# Altium integrated library TI_Logic_Specialty_Logic.IntLib: 2504 symbols (part 53 of 81)
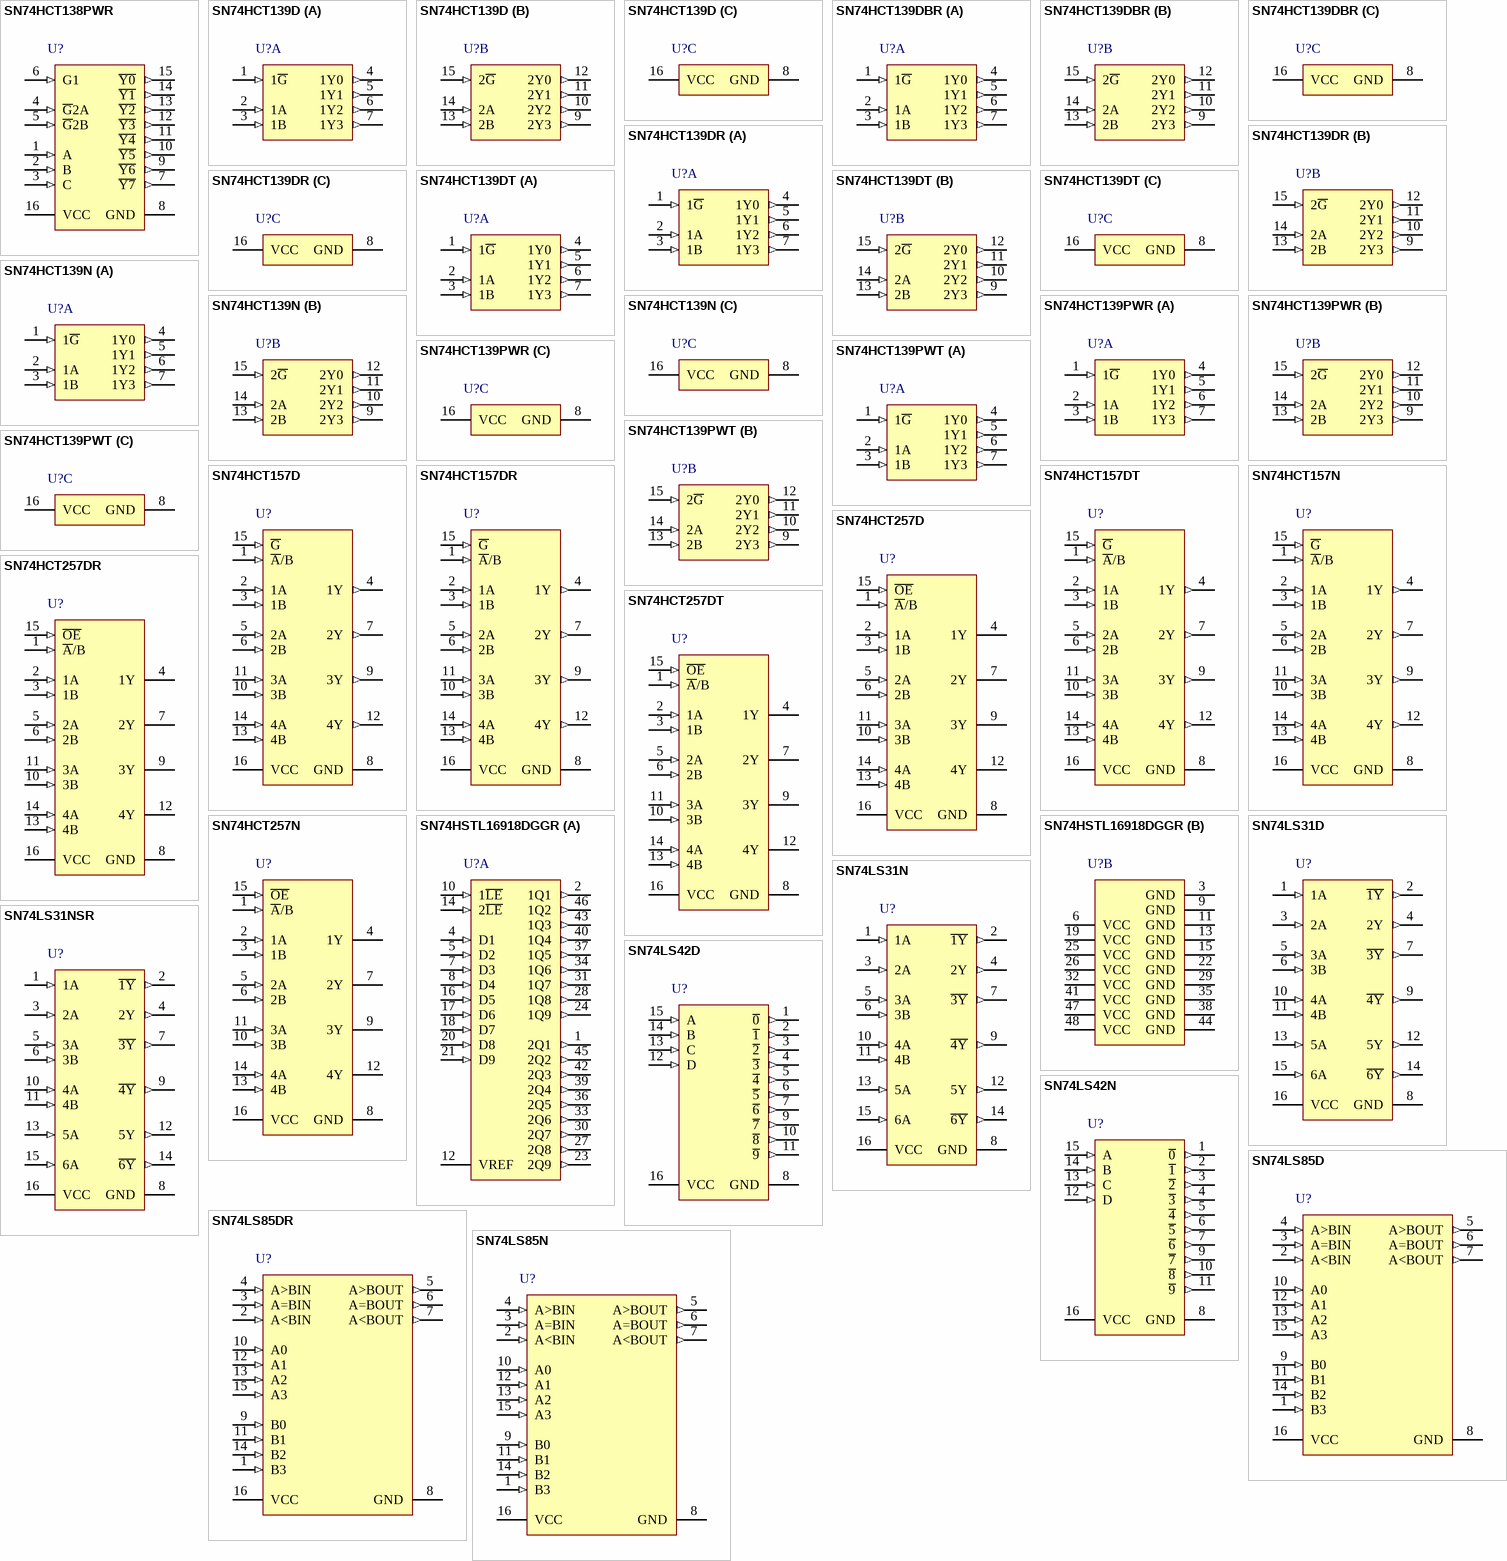
[diagram p156: symbols SN74HCT138PWR to SN74LS85N]

## SN74HCT139DR
designator U?
Dual 2-Line To 4-Line Decoders/Demultiplexers, D0016A, LARGE T&R; Generic Part Number: SN74HCT139; Manufacturer: Texas Instruments; PartNumber: SN74HCT139DR; VCC(Min)(V): 4.5; VCC(Max)(V): 5.5; Output Type: CMOS; Function: Decoder/Demultiplexer; ICC @ Nom Voltage(Max)(mA): 0.08; Input Type: TTL; Bits(#): 4; F @ Nom Voltage(Max)(Mhz): 25; Configuration: 2：4; Channels(#): 2; Rating: Catalog; Technology Family: HCT; Voltage(Nom)(V): 5; Schmitt Trigger: No; Output Drive (IOL/IOH)(Max)(mA): 4/-4; tpd @ Nom Voltage(Max)(ns): 43; DatasheetVersion: SCLS066D; PackageReference: D0016A; Supplier 1: Mouser; Supplier Part Number 1: 595-SN74HCT139DR; Supplier 2: Digi-Key; Supplier Part Number 2: 296-31833-2-ND; Supplier 3: Digi-Key; Supplier Part Number 3: 296-31833-1-ND; Supplier 4: Digi-Key; Supplier Part Number 4: 296-31833-6-ND; Operating Temperature Range(C): -40 to 85; Type: Standard; Code_JEDEC: MS-012 variation AC; ComponentLink1Description: Manufacturer URL; ComponentLink1URL: http://www.ti.com/; ComponentLink2Description: Datasheet; ComponentLink2URL: http://www.ti.com/lit/ds/symlink/sn74hct139.pdf; ComponentLink3Description: Package Specification; ComponentLink3URL: http://www.ti.com/lit/ml/mpds178g/mpds178g.pdf
footprint D0016A_N (SOIC, 16-Leads, Body 10x4mm, Pitch 1.27mm, IPC Medium Density)
footprint D0016A_M (SOIC, 16-Leads, Body 10x4mm, Pitch 1.27mm, IPC Low Density)
footprint D0016A_L (SOIC, 16-Leads, Body 10x4mm, Pitch 1.27mm, IPC High Density)
part A pins: 1 1~{G} (in), 2 1A (in), 3 1B (in), 4 1Y0 (out), 5 1Y1 (out), 6 1Y2 (out), 7 1Y3 (out)
part B pins: 9 2Y3 (out), 10 2Y2 (out), 11 2Y1 (out), 12 2Y0 (out), 13 2B (in), 14 2A (in), 15 2~{G} (in)
part C pins: 8 GND (power), 16 VCC (power)

## SN74HCT139DT
designator U?
Dual 2-Line To 4-Line Decoders/Demultiplexers, D0016A, SMALL T&R; Generic Part Number: SN74HCT139; Manufacturer: Texas Instruments; PartNumber: SN74HCT139DT; VCC(Min)(V): 4.5; VCC(Max)(V): 5.5; Output Type: CMOS; Function: Decoder/Demultiplexer; ICC @ Nom Voltage(Max)(mA): 0.08; Input Type: TTL; Bits(#): 4; F @ Nom Voltage(Max)(Mhz): 25; Configuration: 2：4; Channels(#): 2; Rating: Catalog; Technology Family: HCT; Voltage(Nom)(V): 5; Schmitt Trigger: No; Output Drive (IOL/IOH)(Max)(mA): 4/-4; tpd @ Nom Voltage(Max)(ns): 43; DatasheetVersion: SCLS066D; PackageReference: D0016A; Supplier 1: Mouser; Supplier Part Number 1: 595-SN74HCT139DT; Supplier 2: Digi-Key; Supplier Part Number 2: SN74HCT139DT-ND; Operating Temperature Range(C): -40 to 85; Type: Standard; Code_JEDEC: MS-012 variation AC; ComponentLink1Description: Manufacturer URL; ComponentLink1URL: http://www.ti.com/; ComponentLink2Description: Datasheet; ComponentLink2URL: http://www.ti.com/lit/ds/symlink/sn74hct139.pdf; ComponentLink3Description: Package Specification; ComponentLink3URL: http://www.ti.com/lit/ml/mpds178g/mpds178g.pdf
footprint D0016A_N (SOIC, 16-Leads, Body 10x4mm, Pitch 1.27mm, IPC Medium Density)
footprint D0016A_M (SOIC, 16-Leads, Body 10x4mm, Pitch 1.27mm, IPC Low Density)
footprint D0016A_L (SOIC, 16-Leads, Body 10x4mm, Pitch 1.27mm, IPC High Density)
part A pins: 1 1~{G} (in), 2 1A (in), 3 1B (in), 4 1Y0 (out), 5 1Y1 (out), 6 1Y2 (out), 7 1Y3 (out)
part B pins: 9 2Y3 (out), 10 2Y2 (out), 11 2Y1 (out), 12 2Y0 (out), 13 2B (in), 14 2A (in), 15 2~{G} (in)
part C pins: 8 GND (power), 16 VCC (power)

## SN74HCT139N
designator U?
Dual 2-Line To 4-Line Decoders/Demultiplexers, N0016A, TUBE; Generic Part Number: SN74HCT139; Manufacturer: Texas Instruments; PartNumber: SN74HCT139N; VCC(Min)(V): 4.5; VCC(Max)(V): 5.5; Output Type: CMOS; Function: Decoder/Demultiplexer; ICC @ Nom Voltage(Max)(mA): 0.08; Input Type: TTL; Bits(#): 4; F @ Nom Voltage(Max)(Mhz): 25; Configuration: 2：4; Channels(#): 2; Rating: Catalog; Technology Family: HCT; Voltage(Nom)(V): 5; Schmitt Trigger: No; Output Drive (IOL/IOH)(Max)(mA): 4/-4; tpd @ Nom Voltage(Max)(ns): 43; DatasheetVersion: SCLS066D; PackageReference: N0016A; Supplier 1: Mouser; Supplier Part Number 1: 595-SN74HCT139N; Supplier 2: Digi-Key; Supplier Part Number 2: 296-8390-5-ND; Operating Temperature Range(C): -40 to 85; Type: Standard; Code_JEDEC: MS-001; ComponentLink1Description: Manufacturer URL; ComponentLink1URL: http://www.ti.com/; ComponentLink2Description: Datasheet; ComponentLink2URL: http://www.ti.com/lit/ds/symlink/sn74hct139.pdf; ComponentLink3Description: Package Specification; ComponentLink3URL: http://www.ti.com/lit/ml/mpdi002c/mpdi002c.pdf
footprint N0016A (DIP, 16-Leads, Body 19.7x6.6mm, Pitch 2.54mm)
part A pins: 1 1~{G} (in), 2 1A (in), 3 1B (in), 4 1Y0 (out), 5 1Y1 (out), 6 1Y2 (out), 7 1Y3 (out)
part B pins: 9 2Y3 (out), 10 2Y2 (out), 11 2Y1 (out), 12 2Y0 (out), 13 2B (in), 14 2A (in), 15 2~{G} (in)
part C pins: 8 GND (power), 16 VCC (power)

## SN74HCT139PWR
designator U?
Dual 2-Line To 4-Line Decoders/Demultiplexers, PW0016A, LARGE T&R; Generic Part Number: SN74HCT139; Manufacturer: Texas Instruments; PartNumber: SN74HCT139PWR; VCC(Min)(V): 4.5; VCC(Max)(V): 5.5; Output Type: CMOS; Function: Decoder/Demultiplexer; ICC @ Nom Voltage(Max)(mA): 0.08; Input Type: TTL; Bits(#): 4; F @ Nom Voltage(Max)(Mhz): 25; Configuration: 2：4; Channels(#): 2; Rating: Catalog; Technology Family: HCT; Voltage(Nom)(V): 5; Schmitt Trigger: No; Output Drive (IOL/IOH)(Max)(mA): 4/-4; tpd @ Nom Voltage(Max)(ns): 43; DatasheetVersion: SCLS066D; PackageReference: PW0016A; Supplier 1: Mouser; Supplier Part Number 1: 595-SN74HCT139PWR; Supplier 2: Digi-Key; Supplier Part Number 2: 296-11999-2-ND; Supplier 3: Digi-Key; Supplier Part Number 3: 296-11999-1-ND; Supplier 4: Digi-Key; Supplier Part Number 4: 296-11999-6-ND; Operating Temperature Range(C): -40 to 85; Type: Standard; Code_JEDEC: MO-153; ComponentLink1Description: Manufacturer URL; ComponentLink1URL: http://www.ti.com/; ComponentLink2Description: Datasheet; ComponentLink2URL: http://www.ti.com/lit/ds/symlink/sn74hct139.pdf; ComponentLink3Description: Package Specification; ComponentLink3URL: http://www.ti.com/lit/ml/mpds361/mpds361.pdf
footprint PW0016A_N (SOP, 16-Leads, Body 5.1x4.5mm, Pitch 0.65mm, IPC Medium Density)
footprint PW0016A_M (SOP, 16-Leads, Body 5.1x4.5mm, Pitch 0.65mm, IPC Low Density)
footprint PW0016A_L (SOP, 16-Leads, Body 5.1x4.5mm, Pitch 0.65mm, IPC High Density)
part A pins: 1 1~{G} (in), 2 1A (in), 3 1B (in), 4 1Y0 (out), 5 1Y1 (out), 6 1Y2 (out), 7 1Y3 (out)
part B pins: 9 2Y3 (out), 10 2Y2 (out), 11 2Y1 (out), 12 2Y0 (out), 13 2B (in), 14 2A (in), 15 2~{G} (in)
part C pins: 8 GND (power), 16 VCC (power)

## SN74HCT139PWT
designator U?
Dual 2-Line To 4-Line Decoders/Demultiplexers, PW0016A, SMALL T&R; Generic Part Number: SN74HCT139; Manufacturer: Texas Instruments; PartNumber: SN74HCT139PWT; VCC(Min)(V): 4.5; VCC(Max)(V): 5.5; Output Type: CMOS; Function: Decoder/Demultiplexer; ICC @ Nom Voltage(Max)(mA): 0.08; Input Type: TTL; Bits(#): 4; F @ Nom Voltage(Max)(Mhz): 25; Configuration: 2：4; Channels(#): 2; Rating: Catalog; Technology Family: HCT; Voltage(Nom)(V): 5; Schmitt Trigger: No; Output Drive (IOL/IOH)(Max)(mA): 4/-4; tpd @ Nom Voltage(Max)(ns): 43; DatasheetVersion: SCLS066D; PackageReference: PW0016A; Supplier 1: Mouser; Supplier Part Number 1: 595-SN74HCT139PWT; Supplier 2: Digi-Key; Supplier Part Number 2: SN74HCT139PWT-ND; Operating Temperature Range(C): -40 to 85; Type: Standard; Code_JEDEC: MO-153; ComponentLink1Description: Manufacturer URL; ComponentLink1URL: http://www.ti.com/; ComponentLink2Description: Datasheet; ComponentLink2URL: http://www.ti.com/lit/ds/symlink/sn74hct139.pdf; ComponentLink3Description: Package Specification; ComponentLink3URL: http://www.ti.com/lit/ml/mpds361/mpds361.pdf
footprint PW0016A_N (SOP, 16-Leads, Body 5.1x4.5mm, Pitch 0.65mm, IPC Medium Density)
footprint PW0016A_M (SOP, 16-Leads, Body 5.1x4.5mm, Pitch 0.65mm, IPC Low Density)
footprint PW0016A_L (SOP, 16-Leads, Body 5.1x4.5mm, Pitch 0.65mm, IPC High Density)
part A pins: 1 1~{G} (in), 2 1A (in), 3 1B (in), 4 1Y0 (out), 5 1Y1 (out), 6 1Y2 (out), 7 1Y3 (out)
part B pins: 9 2Y3 (out), 10 2Y2 (out), 11 2Y1 (out), 12 2Y0 (out), 13 2B (in), 14 2A (in), 15 2~{G} (in)
part C pins: 8 GND (power), 16 VCC (power)

## SN74HCT157D
designator U?
Quadruple 2-Line To 1-Line Data Selectors/Multiplexers, D0016A, TUBE; Generic Part Number: SN74HCT157; Manufacturer: Texas Instruments; PartNumber: SN74HCT157D; VCC(Min)(V): 4.5; VCC(Max)(V): 5.5; Output Type: CMOS; Function: Encoder/Multiplexer; ICC @ Nom Voltage(Max)(mA): 0.08; Input Type: TTL; Bits(#): 2; F @ Nom Voltage(Max)(Mhz): 25; Configuration: 2：1; Channels(#): 4; Rating: Catalog; Technology Family: HCT; Voltage(Nom)(V): 5; Schmitt Trigger: No; Output Drive (IOL/IOH)(Max)(mA): 6/-6; tpd @ Nom Voltage(Max)(ns): 40; DatasheetVersion: SCLS071D; PackageReference: D0016A; Supplier 1: Mouser; Supplier Part Number 1: 595-SN74HCT157D; Supplier 2: Digi-Key; Supplier Part Number 2: 296-8396-5-ND; Operating Temperature Range(C): -40 to 85; Type: Standard; Code_JEDEC: MS-012 variation AC; ComponentLink1Description: Manufacturer URL; ComponentLink1URL: http://www.ti.com/; ComponentLink2Description: Datasheet; ComponentLink2URL: http://www.ti.com/lit/ds/symlink/sn74hct157.pdf; ComponentLink3Description: Package Specification; ComponentLink3URL: http://www.ti.com/lit/ml/mpds178g/mpds178g.pdf
footprint D0016A_N (SOIC, 16-Leads, Body 10x4mm, Pitch 1.27mm, IPC Medium Density)
footprint D0016A_M (SOIC, 16-Leads, Body 10x4mm, Pitch 1.27mm, IPC Low Density)
footprint D0016A_L (SOIC, 16-Leads, Body 10x4mm, Pitch 1.27mm, IPC High Density)
pins: 1 ~{A}/B (in), 2 1A (in), 3 1B (in), 4 1Y (out), 5 2A (in), 6 2B (in), 7 2Y (out), 8 GND (power), 9 3Y (out), 10 3B (in), 11 3A (in), 12 4Y (out), 13 4B (in), 14 4A (in), 15 ~{G} (in), 16 VCC (power)

## SN74HCT157DR
designator U?
Quadruple 2-Line To 1-Line Data Selectors/Multiplexers, D0016A, LARGE T&R; Generic Part Number: SN74HCT157; Manufacturer: Texas Instruments; PartNumber: SN74HCT157DR; VCC(Min)(V): 4.5; VCC(Max)(V): 5.5; Output Type: CMOS; Function: Encoder/Multiplexer; ICC @ Nom Voltage(Max)(mA): 0.08; Input Type: TTL; Bits(#): 2; F @ Nom Voltage(Max)(Mhz): 25; Configuration: 2：1; Channels(#): 4; Rating: Catalog; Technology Family: HCT; Voltage(Nom)(V): 5; Schmitt Trigger: No; Output Drive (IOL/IOH)(Max)(mA): 6/-6; tpd @ Nom Voltage(Max)(ns): 40; DatasheetVersion: SCLS071D; PackageReference: D0016A; Supplier 1: Mouser; Supplier Part Number 1: 595-SN74HCT157DR; Supplier 2: Digi-Key; Supplier Part Number 2: 296-31835-2-ND; Supplier 3: Digi-Key; Supplier Part Number 3: 296-31835-1-ND; Supplier 4: Digi-Key; Supplier Part Number 4: 296-31835-6-ND; Operating Temperature Range(C): -40 to 85; Type: Standard; Code_JEDEC: MS-012 variation AC; ComponentLink1Description: Manufacturer URL; ComponentLink1URL: http://www.ti.com/; ComponentLink2Description: Datasheet; ComponentLink2URL: http://www.ti.com/lit/ds/symlink/sn74hct157.pdf; ComponentLink3Description: Package Specification; ComponentLink3URL: http://www.ti.com/lit/ml/mpds178g/mpds178g.pdf
footprint D0016A_N (SOIC, 16-Leads, Body 10x4mm, Pitch 1.27mm, IPC Medium Density)
footprint D0016A_M (SOIC, 16-Leads, Body 10x4mm, Pitch 1.27mm, IPC Low Density)
footprint D0016A_L (SOIC, 16-Leads, Body 10x4mm, Pitch 1.27mm, IPC High Density)
pins: 1 ~{A}/B (in), 2 1A (in), 3 1B (in), 4 1Y (out), 5 2A (in), 6 2B (in), 7 2Y (out), 8 GND (power), 9 3Y (out), 10 3B (in), 11 3A (in), 12 4Y (out), 13 4B (in), 14 4A (in), 15 ~{G} (in), 16 VCC (power)

## SN74HCT157DT
designator U?
Quadruple 2-Line To 1-Line Data Selectors/Multiplexers, D0016A, SMALL T&R; Generic Part Number: SN74HCT157; Manufacturer: Texas Instruments; PartNumber: SN74HCT157DT; VCC(Min)(V): 4.5; VCC(Max)(V): 5.5; Output Type: CMOS; Function: Encoder/Multiplexer; ICC @ Nom Voltage(Max)(mA): 0.08; Input Type: TTL; Bits(#): 2; F @ Nom Voltage(Max)(Mhz): 25; Configuration: 2：1; Channels(#): 4; Rating: Catalog; Technology Family: HCT; Voltage(Nom)(V): 5; Schmitt Trigger: No; Output Drive (IOL/IOH)(Max)(mA): 6/-6; tpd @ Nom Voltage(Max)(ns): 40; DatasheetVersion: SCLS071D; PackageReference: D0016A; Supplier 1: Mouser; Supplier Part Number 1: 595-SN74HCT157DT; Supplier 2: Digi-Key; Supplier Part Number 2: SN74HCT157DT-ND; Operating Temperature Range(C): -40 to 85; Type: Standard; Code_JEDEC: MS-012 variation AC; ComponentLink1Description: Manufacturer URL; ComponentLink1URL: http://www.ti.com/; ComponentLink2Description: Datasheet; ComponentLink2URL: http://www.ti.com/lit/ds/symlink/sn74hct157.pdf; ComponentLink3Description: Package Specification; ComponentLink3URL: http://www.ti.com/lit/ml/mpds178g/mpds178g.pdf
footprint D0016A_N (SOIC, 16-Leads, Body 10x4mm, Pitch 1.27mm, IPC Medium Density)
footprint D0016A_M (SOIC, 16-Leads, Body 10x4mm, Pitch 1.27mm, IPC Low Density)
footprint D0016A_L (SOIC, 16-Leads, Body 10x4mm, Pitch 1.27mm, IPC High Density)
pins: 1 ~{A}/B (in), 2 1A (in), 3 1B (in), 4 1Y (out), 5 2A (in), 6 2B (in), 7 2Y (out), 8 GND (power), 9 3Y (out), 10 3B (in), 11 3A (in), 12 4Y (out), 13 4B (in), 14 4A (in), 15 ~{G} (in), 16 VCC (power)

## SN74HCT157N
designator U?
Quadruple 2-Line To 1-Line Data Selectors/Multiplexers, N0016A, TUBE; Generic Part Number: SN74HCT157; Manufacturer: Texas Instruments; PartNumber: SN74HCT157N; VCC(Min)(V): 4.5; VCC(Max)(V): 5.5; Output Type: CMOS; Function: Encoder/Multiplexer; ICC @ Nom Voltage(Max)(mA): 0.08; Input Type: TTL; Bits(#): 2; F @ Nom Voltage(Max)(Mhz): 25; Configuration: 2：1; Channels(#): 4; Rating: Catalog; Technology Family: HCT; Voltage(Nom)(V): 5; Schmitt Trigger: No; Output Drive (IOL/IOH)(Max)(mA): 6/-6; tpd @ Nom Voltage(Max)(ns): 40; DatasheetVersion: SCLS071D; PackageReference: N0016A; Supplier 1: Mouser; Supplier Part Number 1: 595-SN74HCT157N; Supplier 2: Digi-Key; Supplier Part Number 2: 296-8397-5-ND; Operating Temperature Range(C): -40 to 85; Type: Standard; Code_JEDEC: MS-001; ComponentLink1Description: Manufacturer URL; ComponentLink1URL: http://www.ti.com/; ComponentLink2Description: Datasheet; ComponentLink2URL: http://www.ti.com/lit/ds/symlink/sn74hct157.pdf; ComponentLink3Description: Package Specification; ComponentLink3URL: http://www.ti.com/lit/ml/mpdi002c/mpdi002c.pdf
footprint N0016A (DIP, 16-Leads, Body 19.7x6.6mm, Pitch 2.54mm)
pins: 1 ~{A}/B (in), 2 1A (in), 3 1B (in), 4 1Y (out), 5 2A (in), 6 2B (in), 7 2Y (out), 8 GND (power), 9 3Y (out), 10 3B (in), 11 3A (in), 12 4Y (out), 13 4B (in), 14 4A (in), 15 ~{G} (in), 16 VCC (power)

## SN74HCT257D
designator U?
Quadruple 2-Line To 1-Line Data Selectors/Multiplexers With 3-State Outputs, D0016A, TUBE; Generic Part Number: SN74HCT257; Manufacturer: Texas Instruments; PartNumber: SN74HCT257D; VCC(Min)(V): 4.5; VCC(Max)(V): 5.5; Output Type: CMOS; Function: Encoder/Multiplexer; ICC @ Nom Voltage(Max)(mA): 0.08; Input Type: TTL; Bits(#): 2; F @ Nom Voltage(Max)(Mhz): 25; Configuration: 2：1; Channels(#): 4; Rating: Catalog; Technology Family: HCT; Voltage(Nom)(V): 5; Schmitt Trigger: No; Output Drive (IOL/IOH)(Max)(mA): 6/-6; tpd @ Nom Voltage(Max)(ns): 38; DatasheetVersion: SCLS072D; PackageReference: D0016A; Supplier 1: Mouser; Supplier Part Number 1: 595-SN74HCT257D; Supplier 2: Digi-Key; Supplier Part Number 2: 296-8405-5-ND; Operating Temperature Range(C): -40 to 85; Type: 3-State Output; Code_JEDEC: MS-012 variation AC; ComponentLink1Description: Manufacturer URL; ComponentLink1URL: http://www.ti.com/; ComponentLink2Description: Datasheet; ComponentLink2URL: http://www.ti.com/lit/ds/symlink/sn74hct257.pdf; ComponentLink3Description: Package Specification; ComponentLink3URL: http://www.ti.com/lit/ml/mpds178g/mpds178g.pdf
footprint D0016A_N (SOIC, 16-Leads, Body 10x4mm, Pitch 1.27mm, IPC Medium Density)
footprint D0016A_M (SOIC, 16-Leads, Body 10x4mm, Pitch 1.27mm, IPC Low Density)
footprint D0016A_L (SOIC, 16-Leads, Body 10x4mm, Pitch 1.27mm, IPC High Density)
pins: 1 ~{A}/B (in), 2 1A (in), 3 1B (in), 4 1Y (hiz), 5 2A (in), 6 2B (in), 7 2Y (hiz), 8 GND (power), 9 3Y (hiz), 10 3B (in), 11 3A (in), 12 4Y (hiz), 13 4B (in), 14 4A (in), 15 ~{OE} (in), 16 VCC (power)

## SN74HCT257DR
designator U?
Quadruple 2-Line To 1-Line Data Selectors/Multiplexers With 3-State Outputs, D0016A, LARGE T&R; Generic Part Number: SN74HCT257; Manufacturer: Texas Instruments; PartNumber: SN74HCT257DR; VCC(Min)(V): 4.5; VCC(Max)(V): 5.5; Output Type: CMOS; Function: Encoder/Multiplexer; ICC @ Nom Voltage(Max)(mA): 0.08; Input Type: TTL; Bits(#): 2; F @ Nom Voltage(Max)(Mhz): 25; Configuration: 2：1; Channels(#): 4; Rating: Catalog; Technology Family: HCT; Voltage(Nom)(V): 5; Schmitt Trigger: No; Output Drive (IOL/IOH)(Max)(mA): 6/-6; tpd @ Nom Voltage(Max)(ns): 38; DatasheetVersion: SCLS072D; PackageReference: D0016A; Supplier 1: Mouser; Supplier Part Number 1: 595-SN74HCT257DR; Supplier 2: Digi-Key; Supplier Part Number 2: 296-14866-2-ND; Supplier 3: Digi-Key; Supplier Part Number 3: 296-14866-1-ND; Supplier 4: Digi-Key; Supplier Part Number 4: 296-14866-6-ND; Operating Temperature Range(C): -40 to 85; Type: 3-State Output; Code_JEDEC: MS-012 variation AC; ComponentLink1Description: Manufacturer URL; ComponentLink1URL: http://www.ti.com/; ComponentLink2Description: Datasheet; ComponentLink2URL: http://www.ti.com/lit/ds/symlink/sn74hct257.pdf; ComponentLink3Description: Package Specification; ComponentLink3URL: http://www.ti.com/lit/ml/mpds178g/mpds178g.pdf
footprint D0016A_N (SOIC, 16-Leads, Body 10x4mm, Pitch 1.27mm, IPC Medium Density)
footprint D0016A_M (SOIC, 16-Leads, Body 10x4mm, Pitch 1.27mm, IPC Low Density)
footprint D0016A_L (SOIC, 16-Leads, Body 10x4mm, Pitch 1.27mm, IPC High Density)
pins: 1 ~{A}/B (in), 2 1A (in), 3 1B (in), 4 1Y (hiz), 5 2A (in), 6 2B (in), 7 2Y (hiz), 8 GND (power), 9 3Y (hiz), 10 3B (in), 11 3A (in), 12 4Y (hiz), 13 4B (in), 14 4A (in), 15 ~{OE} (in), 16 VCC (power)

## SN74HCT257DT
designator U?
Quadruple 2-Line To 1-Line Data Selectors/Multiplexers With 3-State Outputs, D0016A, SMALL T&R; Generic Part Number: SN74HCT257; Manufacturer: Texas Instruments; PartNumber: SN74HCT257DT; VCC(Min)(V): 4.5; VCC(Max)(V): 5.5; Output Type: CMOS; Function: Encoder/Multiplexer; ICC @ Nom Voltage(Max)(mA): 0.08; Input Type: TTL; Bits(#): 2; F @ Nom Voltage(Max)(Mhz): 25; Configuration: 2：1; Channels(#): 4; Rating: Catalog; Technology Family: HCT; Voltage(Nom)(V): 5; Schmitt Trigger: No; Output Drive (IOL/IOH)(Max)(mA): 6/-6; tpd @ Nom Voltage(Max)(ns): 38; DatasheetVersion: SCLS072D; PackageReference: D0016A; Supplier 1: Mouser; Supplier Part Number 1: 595-SN74HCT257DT; Supplier 2: Digi-Key; Supplier Part Number 2: SN74HCT257DT-ND; Operating Temperature Range(C): -40 to 85; Type: 3-State Output; Code_JEDEC: MS-012 variation AC; ComponentLink1Description: Manufacturer URL; ComponentLink1URL: http://www.ti.com/; ComponentLink2Description: Datasheet; ComponentLink2URL: http://www.ti.com/lit/ds/symlink/sn74hct257.pdf; ComponentLink3Description: Package Specification; ComponentLink3URL: http://www.ti.com/lit/ml/mpds178g/mpds178g.pdf
footprint D0016A_N (SOIC, 16-Leads, Body 10x4mm, Pitch 1.27mm, IPC Medium Density)
footprint D0016A_M (SOIC, 16-Leads, Body 10x4mm, Pitch 1.27mm, IPC Low Density)
footprint D0016A_L (SOIC, 16-Leads, Body 10x4mm, Pitch 1.27mm, IPC High Density)
pins: 1 ~{A}/B (in), 2 1A (in), 3 1B (in), 4 1Y (hiz), 5 2A (in), 6 2B (in), 7 2Y (hiz), 8 GND (power), 9 3Y (hiz), 10 3B (in), 11 3A (in), 12 4Y (hiz), 13 4B (in), 14 4A (in), 15 ~{OE} (in), 16 VCC (power)

## SN74HCT257N
designator U?
Quadruple 2-Line To 1-Line Data Selectors/Multiplexers With 3-State Outputs, N0016A, TUBE; Generic Part Number: SN74HCT257; Manufacturer: Texas Instruments; PartNumber: SN74HCT257N; VCC(Min)(V): 4.5; VCC(Max)(V): 5.5; Output Type: CMOS; Function: Encoder/Multiplexer; ICC @ Nom Voltage(Max)(mA): 0.08; Input Type: TTL; Bits(#): 2; F @ Nom Voltage(Max)(Mhz): 25; Configuration: 2：1; Channels(#): 4; Rating: Catalog; Technology Family: HCT; Voltage(Nom)(V): 5; Schmitt Trigger: No; Output Drive (IOL/IOH)(Max)(mA): 6/-6; tpd @ Nom Voltage(Max)(ns): 38; DatasheetVersion: SCLS072D; PackageReference: N0016A; Supplier 1: Mouser; Supplier Part Number 1: 595-SN74HCT257N; Supplier 2: Digi-Key; Supplier Part Number 2: 296-8406-5-ND; Operating Temperature Range(C): -40 to 85; Type: 3-State Output; Code_JEDEC: MS-001; ComponentLink1Description: Manufacturer URL; ComponentLink1URL: http://www.ti.com/; ComponentLink2Description: Datasheet; ComponentLink2URL: http://www.ti.com/lit/ds/symlink/sn74hct257.pdf; ComponentLink3Description: Package Specification; ComponentLink3URL: http://www.ti.com/lit/ml/mpdi002c/mpdi002c.pdf
footprint N0016A (DIP, 16-Leads, Body 19.7x6.6mm, Pitch 2.54mm)
pins: 1 ~{A}/B (in), 2 1A (in), 3 1B (in), 4 1Y (hiz), 5 2A (in), 6 2B (in), 7 2Y (hiz), 8 GND (power), 9 3Y (hiz), 10 3B (in), 11 3A (in), 12 4Y (hiz), 13 4B (in), 14 4A (in), 15 ~{OE} (in), 16 VCC (power)

## SN74HSTL16918DGGR
designator U?
9-Bit To 18-Bit HSTL-To-LVTTL Memory Address Latch, DGG0048A, LARGE T&R; Generic Part Number: SN74HSTL16918; Manufacturer: Texas Instruments; PartNumber: SN74HSTL16918DGGR; Input Level: HSTL; Output Level: LVTTL; Voltage Nodes(V): 3.3; DatasheetVersion: SCES096C; PackageReference: DGG0048A; Supplier 1: Mouser; Supplier Part Number 1: 595-SN74HSTL16918DGG; Supplier 2: Digi-Key; Supplier Part Number 2: 296-9823-2-ND; Supplier 3: Digi-Key; Supplier Part Number 3: 296-9823-1-ND; Supplier 4: Digi-Key; Supplier Part Number 4: 296-9823-6-ND; Operating Temperature Range(C): -40 to 85; Technology Family: HSTL; Code_JEDEC: MO-153; ComponentLink1Description: Manufacturer URL; ComponentLink1URL: http://www.ti.com/; ComponentLink2Description: Datasheet; ComponentLink2URL: http://www.ti.com/lit/ds/symlink/sn74hstl16918.pdf; ComponentLink3Description: Package Specification; ComponentLink3URL: http://www.ti.com/lit/ml/mtss003d/mtss003d.pdf
footprint DGG0048A_N (TSSOP, 48-Leads, Body 12.6x6.2mm, Pitch 0.5mm, IPC Medium Density)
footprint DGG0048A_M (TSSOP, 48-Leads, Body 12.6x6.2mm, Pitch 0.5mm, IPC Low Density)
footprint DGG0048A_L (TSSOP, 48-Leads, Body 12.6x6.2mm, Pitch 0.5mm, IPC High Density)
part A pins: 1 2Q1 (out), 2 1Q1 (out), 4 D1 (in), 5 D2 (in), 7 D3 (in), 8 D4 (in), 10 1~{LE} (in), 12 VREF (power), 14 2~{LE} (in), 16 D5 (in), 17 D6 (in), 18 D7 (in), 20 D8 (in), 21 D9 (in), 23 2Q9 (out), 24 1Q9 (out), 27 2Q8 (out), 28 1Q8 (out), 30 2Q7 (out), 31 1Q7 (out), 33 2Q6 (out), 34 1Q6 (out), 36 2Q5 (out), 37 1Q5 (out), 39 2Q4 (out), 40 1Q4 (out), 42 2Q3 (out), 43 1Q3 (out), 45 2Q2 (out), 46 1Q2 (out)
part B pins: 3 GND (power), 6 VCC (power), 9 GND (power), 11 GND (power), 13 GND (power), 15 GND (power), 19 VCC (power), 22 GND (power), 25 VCC (power), 26 VCC (power), 29 GND (power), 32 VCC (power), 35 GND (power), 38 GND (power), 41 VCC (power), 44 GND (power), 47 VCC (power), 48 VCC (power)

## SN74LS31D
designator U?
Hex Delay Elements for Generating Delay Lines, D0016A, TUBE; Generic Part Number: SN74LS31; Manufacturer: Texas Instruments; PartNumber: SN74LS31D; VCC(Min)(V): 4.75; VCC(Max)(V): 5.25; Output Type: TTL; ICC @ Nom Voltage(Max)(mA): 20; Bits(#): 6; F @ Nom Voltage(Max)(Mhz): 35; Rating: Catalog; Technology Family: LS; Voltage(Nom)(V): 5; Output Drive (IOL/IOH)(Max)(mA): 24/-1.2; tpd @ Nom Voltage(Max)(ns): 95; DatasheetVersion: SDLS157; PackageReference: D0016A; Supplier 1: Mouser; Supplier Part Number 1: 595-SN74LS31D; Supplier 2: Digi-Key; Supplier Part Number 2: 296-33992-5-ND; Input Type: TTL; Operating Temperature Range(C): 0 to 70; Code_JEDEC: MS-012 variation AC; ComponentLink1Description: Manufacturer URL; ComponentLink1URL: http://www.ti.com/; ComponentLink2Description: Datasheet; ComponentLink2URL: http://www.ti.com/lit/ds/symlink/sn74ls31.pdf; ComponentLink3Description: Package Specification; ComponentLink3URL: http://www.ti.com/lit/ml/mpds178g/mpds178g.pdf
footprint D0016A_N (SOIC, 16-Leads, Body 10x4mm, Pitch 1.27mm, IPC Medium Density)
footprint D0016A_M (SOIC, 16-Leads, Body 10x4mm, Pitch 1.27mm, IPC Low Density)
footprint D0016A_L (SOIC, 16-Leads, Body 10x4mm, Pitch 1.27mm, IPC High Density)
pins: 1 1A (in), 2 ~{1Y} (out), 3 2A (in), 4 2Y (out), 5 3A (in), 6 3B (in), 7 ~{3Y} (out), 8 GND (power), 9 ~{4Y} (out), 10 4A (in), 11 4B (in), 12 5Y (out), 13 5A (in), 14 ~{6Y} (out), 15 6A (in), 16 VCC (power)

## SN74LS31N
designator U?
Hex Delay Elements for Generating Delay Lines, N0016A, TUBE; Generic Part Number: SN74LS31; Manufacturer: Texas Instruments; PartNumber: SN74LS31N; VCC(Min)(V): 4.75; VCC(Max)(V): 5.25; Output Type: TTL; ICC @ Nom Voltage(Max)(mA): 20; Bits(#): 6; F @ Nom Voltage(Max)(Mhz): 35; Rating: Catalog; Technology Family: LS; Voltage(Nom)(V): 5; Output Drive (IOL/IOH)(Max)(mA): 24/-1.2; tpd @ Nom Voltage(Max)(ns): 95; DatasheetVersion: SDLS157; PackageReference: N0016A; Supplier 1: Mouser; Supplier Part Number 1: 595-SN74LS31N; Supplier 2: Digi-Key; Supplier Part Number 2: 296-3694-5-ND; Input Type: TTL; Operating Temperature Range(C): 0 to 70; Code_JEDEC: MS-001; ComponentLink1Description: Manufacturer URL; ComponentLink1URL: http://www.ti.com/; ComponentLink2Description: Datasheet; ComponentLink2URL: http://www.ti.com/lit/ds/symlink/sn74ls31.pdf; ComponentLink3Description: Package Specification; ComponentLink3URL: http://www.ti.com/lit/ml/mpdi002c/mpdi002c.pdf
footprint N0016A (DIP, 16-Leads, Body 19.7x6.6mm, Pitch 2.54mm)
pins: 1 1A (in), 2 ~{1Y} (out), 3 2A (in), 4 2Y (out), 5 3A (in), 6 3B (in), 7 ~{3Y} (out), 8 GND (power), 9 ~{4Y} (out), 10 4A (in), 11 4B (in), 12 5Y (out), 13 5A (in), 14 ~{6Y} (out), 15 6A (in), 16 VCC (power)

## SN74LS31NSR
designator U?
Hex Delay Elements for Generating Delay Lines, NS0016A, LARGE T&R; Generic Part Number: SN74LS31; Manufacturer: Texas Instruments; PartNumber: SN74LS31NSR; VCC(Min)(V): 4.75; VCC(Max)(V): 5.25; Output Type: TTL; ICC @ Nom Voltage(Max)(mA): 20; Bits(#): 6; F @ Nom Voltage(Max)(Mhz): 35; Rating: Catalog; Technology Family: LS; Voltage(Nom)(V): 5; Output Drive (IOL/IOH)(Max)(mA): 24/-1.2; tpd @ Nom Voltage(Max)(ns): 95; DatasheetVersion: SDLS157; PackageReference: NS0016A; Supplier 1: Mouser; Supplier Part Number 1: 595-SN74LS31NSR; Supplier 2: Digi-Key; Supplier Part Number 2: SN74LS31NSR-ND; Input Type: TTL; Operating Temperature Range(C): 0 to 70; ComponentLink1Description: Manufacturer URL; ComponentLink1URL: http://www.ti.com/; ComponentLink2Description: Datasheet; ComponentLink2URL: http://www.ti.com/lit/ds/symlink/sn74ls31.pdf; ComponentLink3Description: Package Specification; ComponentLink3URL: http://www.ti.com/lit/ml/msop002a/msop002a.pdf
footprint NS0016A_N (SOIC,16-Leads,Body 10.5x5.6mm,Pitch 1.27mm,IPC Medium Density)
footprint NS0016A_M (SOIC,16-Leads,Body 10.5x5.6mm,Pitch 1.27mm,IPC Low Density)
footprint NS0016A_L (SOIC,16-Leads,Body 10.5x5.6mm,Pitch 1.27mm,IPC High Density)
pins: 1 1A (in), 2 ~{1Y} (out), 3 2A (in), 4 2Y (out), 5 3A (in), 6 3B (in), 7 ~{3Y} (out), 8 GND (power), 9 ~{4Y} (out), 10 4A (in), 11 4B (in), 12 5Y (out), 13 5A (in), 14 ~{6Y} (out), 15 6A (in), 16 VCC (power)

## SN74LS42D
designator U?
4-Line BCD To 10-Line Decimal Decoders, D0016A, TUBE; Generic Part Number: SN74LS42; Manufacturer: Texas Instruments; PartNumber: SN74LS42D; VCC(Min)(V): 4.75; VCC(Max)(V): 5.25; Output Type: TTL; Function: Decoder/Demultiplexer; ICC @ Nom Voltage(Max)(mA): 13; Bits(#): 10; F @ Nom Voltage(Max)(Mhz): 35; Configuration: 4：10; Channels(#): 1; Rating: Catalog; Technology Family: LS; Voltage(Nom)(V): 5; Schmitt Trigger: No; Output Drive (IOL/IOH)(Max)(mA): 8/-0.4; tpd @ Nom Voltage(Max)(ns): 30; DatasheetVersion: SDLS109; PackageReference: D0016A; Supplier 1: Mouser; Supplier Part Number 1: 595-SN74LS42D; Supplier 2: Digi-Key; Supplier Part Number 2: 296-3708-5-ND; Input Type: TTL; Operating Temperature Range(C): 0 to 70; Type: Standard; Code_JEDEC: MS-012 variation AC; ComponentLink1Description: Manufacturer URL; ComponentLink1URL: http://www.ti.com/; ComponentLink2Description: Datasheet; ComponentLink2URL: http://www.ti.com/lit/ds/symlink/sn74ls42.pdf; ComponentLink3Description: Package Specification; ComponentLink3URL: http://www.ti.com/lit/ml/mpds178g/mpds178g.pdf
footprint D0016A_N (SOIC, 16-Leads, Body 10x4mm, Pitch 1.27mm, IPC Medium Density)
footprint D0016A_M (SOIC, 16-Leads, Body 10x4mm, Pitch 1.27mm, IPC Low Density)
footprint D0016A_L (SOIC, 16-Leads, Body 10x4mm, Pitch 1.27mm, IPC High Density)
pins: 1 ~{0} (out), 2 ~{1} (out), 3 ~{2} (out), 4 ~{3} (out), 5 ~{4} (out), 6 ~{5} (out), 7 ~{6} (out), 8 GND (power), 9 ~{7} (out), 10 ~{8} (out), 11 ~{9} (out), 12 D (in), 13 C (in), 14 B (in), 15 A (in), 16 VCC (power)

## SN74LS42N
designator U?
4-Line BCD To 10-Line Decimal Decoders, N0016A, TUBE; Generic Part Number: SN74LS42; Manufacturer: Texas Instruments; PartNumber: SN74LS42N; VCC(Min)(V): 4.75; VCC(Max)(V): 5.25; Output Type: TTL; Function: Decoder/Demultiplexer; ICC @ Nom Voltage(Max)(mA): 13; Bits(#): 10; F @ Nom Voltage(Max)(Mhz): 35; Configuration: 4：10; Channels(#): 1; Rating: Catalog; Technology Family: LS; Voltage(Nom)(V): 5; Schmitt Trigger: No; Output Drive (IOL/IOH)(Max)(mA): 8/-0.4; tpd @ Nom Voltage(Max)(ns): 30; DatasheetVersion: SDLS109; PackageReference: N0016A; Supplier 1: Mouser; Supplier Part Number 1: 595-SN74LS42N; Supplier 2: Digi-Key; Supplier Part Number 2: 296-27985-5-ND; Input Type: TTL; Operating Temperature Range(C): 0 to 70; Type: Standard; Code_JEDEC: MS-001; ComponentLink1Description: Manufacturer URL; ComponentLink1URL: http://www.ti.com/; ComponentLink2Description: Datasheet; ComponentLink2URL: http://www.ti.com/lit/ds/symlink/sn74ls42.pdf; ComponentLink3Description: Package Specification; ComponentLink3URL: http://www.ti.com/lit/ml/mpdi002c/mpdi002c.pdf
footprint N0016A (DIP, 16-Leads, Body 19.7x6.6mm, Pitch 2.54mm)
pins: 1 ~{0} (out), 2 ~{1} (out), 3 ~{2} (out), 4 ~{3} (out), 5 ~{4} (out), 6 ~{5} (out), 7 ~{6} (out), 8 GND (power), 9 ~{7} (out), 10 ~{8} (out), 11 ~{9} (out), 12 D (in), 13 C (in), 14 B (in), 15 A (in), 16 VCC (power)

## SN74LS85D
designator U?
4-bit magnitude comparators, D0016A, TUBE; Generic Part Number: SN74LS85; Manufacturer: Texas Instruments; PartNumber: SN74LS85D; VCC(Min)(V): 4.75; VCC(Max)(V): 5.25; Output Type: TTL; ICC @ Nom Voltage(Max)(mA): 88; Bits(#): 4; F @ Nom Voltage(Max)(Mhz): 35; Rating: Catalog; Technology Family: LS; Voltage(Nom)(V): 5; Schmitt Trigger: No; Output Drive (IOL/IOH)(Max)(mA): 16/-0.4; DatasheetVersion: SDLS123; PackageReference: D0016A; Supplier 1: Mouser; Supplier Part Number 1: 595-SN74LS85D; Supplier 2: Digi-Key; Supplier Part Number 2: 296-34030-5-ND; Input Type: TTL; Operating Temperature Range(C): 0 to 70; tpd @ Nom Voltage(Max)(ns): 35; ComponentLink1Description: Manufacturer URL; ComponentLink1URL: http://www.ti.com/; ComponentLink2Description: Datasheet; ComponentLink2URL: http://www.ti.com/lit/ds/symlink/sn74ls85.pdf
footprint D0016A_N (SOIC, 16-Leads, Body 10x4mm, Pitch 1.27mm, IPC Medium Density)
footprint D0016A_M (SOIC, 16-Leads, Body 10x4mm, Pitch 1.27mm, IPC Low Density)
footprint D0016A_L (SOIC, 16-Leads, Body 10x4mm, Pitch 1.27mm, IPC High Density)
pins: 1 B3 (in), 2 A<BIN (in), 3 A=BIN (in), 4 A>BIN (in), 5 A>BOUT (out), 6 A=BOUT (out), 7 A<BOUT (out), 8 GND (power), 9 B0 (in), 10 A0 (in), 11 B1 (in), 12 A1 (in), 13 A2 (in), 14 B2 (in), 15 A3 (in), 16 VCC (power)

## SN74LS85DR
designator U?
4-bit magnitude comparators, D0016A, LARGE T&R; Generic Part Number: SN74LS85; Manufacturer: Texas Instruments; PartNumber: SN74LS85DR; VCC(Min)(V): 4.75; VCC(Max)(V): 5.25; Output Type: TTL; ICC @ Nom Voltage(Max)(mA): 88; Bits(#): 4; F @ Nom Voltage(Max)(Mhz): 35; Rating: Catalog; Technology Family: LS; Voltage(Nom)(V): 5; Schmitt Trigger: No; Output Drive (IOL/IOH)(Max)(mA): 16/-0.4; DatasheetVersion: SDLS123; PackageReference: D0016A; Supplier 1: Mouser; Supplier Part Number 1: 595-SN74LS85DR; Supplier 2: Digi-Key; Supplier Part Number 2: SN74LS85DR-ND; Input Type: TTL; Operating Temperature Range(C): 0 to 70; tpd @ Nom Voltage(Max)(ns): 35; ComponentLink1Description: Manufacturer URL; ComponentLink1URL: http://www.ti.com/; ComponentLink2Description: Datasheet; ComponentLink2URL: http://www.ti.com/lit/ds/symlink/sn74ls85.pdf
footprint D0016A_N (SOIC, 16-Leads, Body 10x4mm, Pitch 1.27mm, IPC Medium Density)
footprint D0016A_M (SOIC, 16-Leads, Body 10x4mm, Pitch 1.27mm, IPC Low Density)
footprint D0016A_L (SOIC, 16-Leads, Body 10x4mm, Pitch 1.27mm, IPC High Density)
pins: 1 B3 (in), 2 A<BIN (in), 3 A=BIN (in), 4 A>BIN (in), 5 A>BOUT (out), 6 A=BOUT (out), 7 A<BOUT (out), 8 GND (power), 9 B0 (in), 10 A0 (in), 11 B1 (in), 12 A1 (in), 13 A2 (in), 14 B2 (in), 15 A3 (in), 16 VCC (power)

## SN74LS85N
designator U?
4-bit magnitude comparators, N0016A, TUBE; Generic Part Number: SN74LS85; Manufacturer: Texas Instruments; PartNumber: SN74LS85N; VCC(Min)(V): 4.75; VCC(Max)(V): 5.25; Output Type: TTL; ICC @ Nom Voltage(Max)(mA): 88; Bits(#): 4; F @ Nom Voltage(Max)(Mhz): 35; Rating: Catalog; Technology Family: LS; Voltage(Nom)(V): 5; Schmitt Trigger: No; Output Drive (IOL/IOH)(Max)(mA): 16/-0.4; DatasheetVersion: SDLS123; PackageReference: N0016A; Supplier 1: Mouser; Supplier Part Number 1: 595-SN74LS85N; Supplier 2: Digi-Key; Supplier Part Number 2: 296-14900-5-ND; Input Type: TTL; Operating Temperature Range(C): 0 to 70; tpd @ Nom Voltage(Max)(ns): 35; ComponentLink1Description: Manufacturer URL; ComponentLink1URL: http://www.ti.com/; ComponentLink2Description: Datasheet; ComponentLink2URL: http://www.ti.com/lit/ds/symlink/sn74ls85.pdf
footprint N0016A (DIP, 16-Leads, Body 19.7x6.6mm, Pitch 2.54mm)
pins: 1 B3 (in), 2 A<BIN (in), 3 A=BIN (in), 4 A>BIN (in), 5 A>BOUT (out), 6 A=BOUT (out), 7 A<BOUT (out), 8 GND (power), 9 B0 (in), 10 A0 (in), 11 B1 (in), 12 A1 (in), 13 A2 (in), 14 B2 (in), 15 A3 (in), 16 VCC (power)

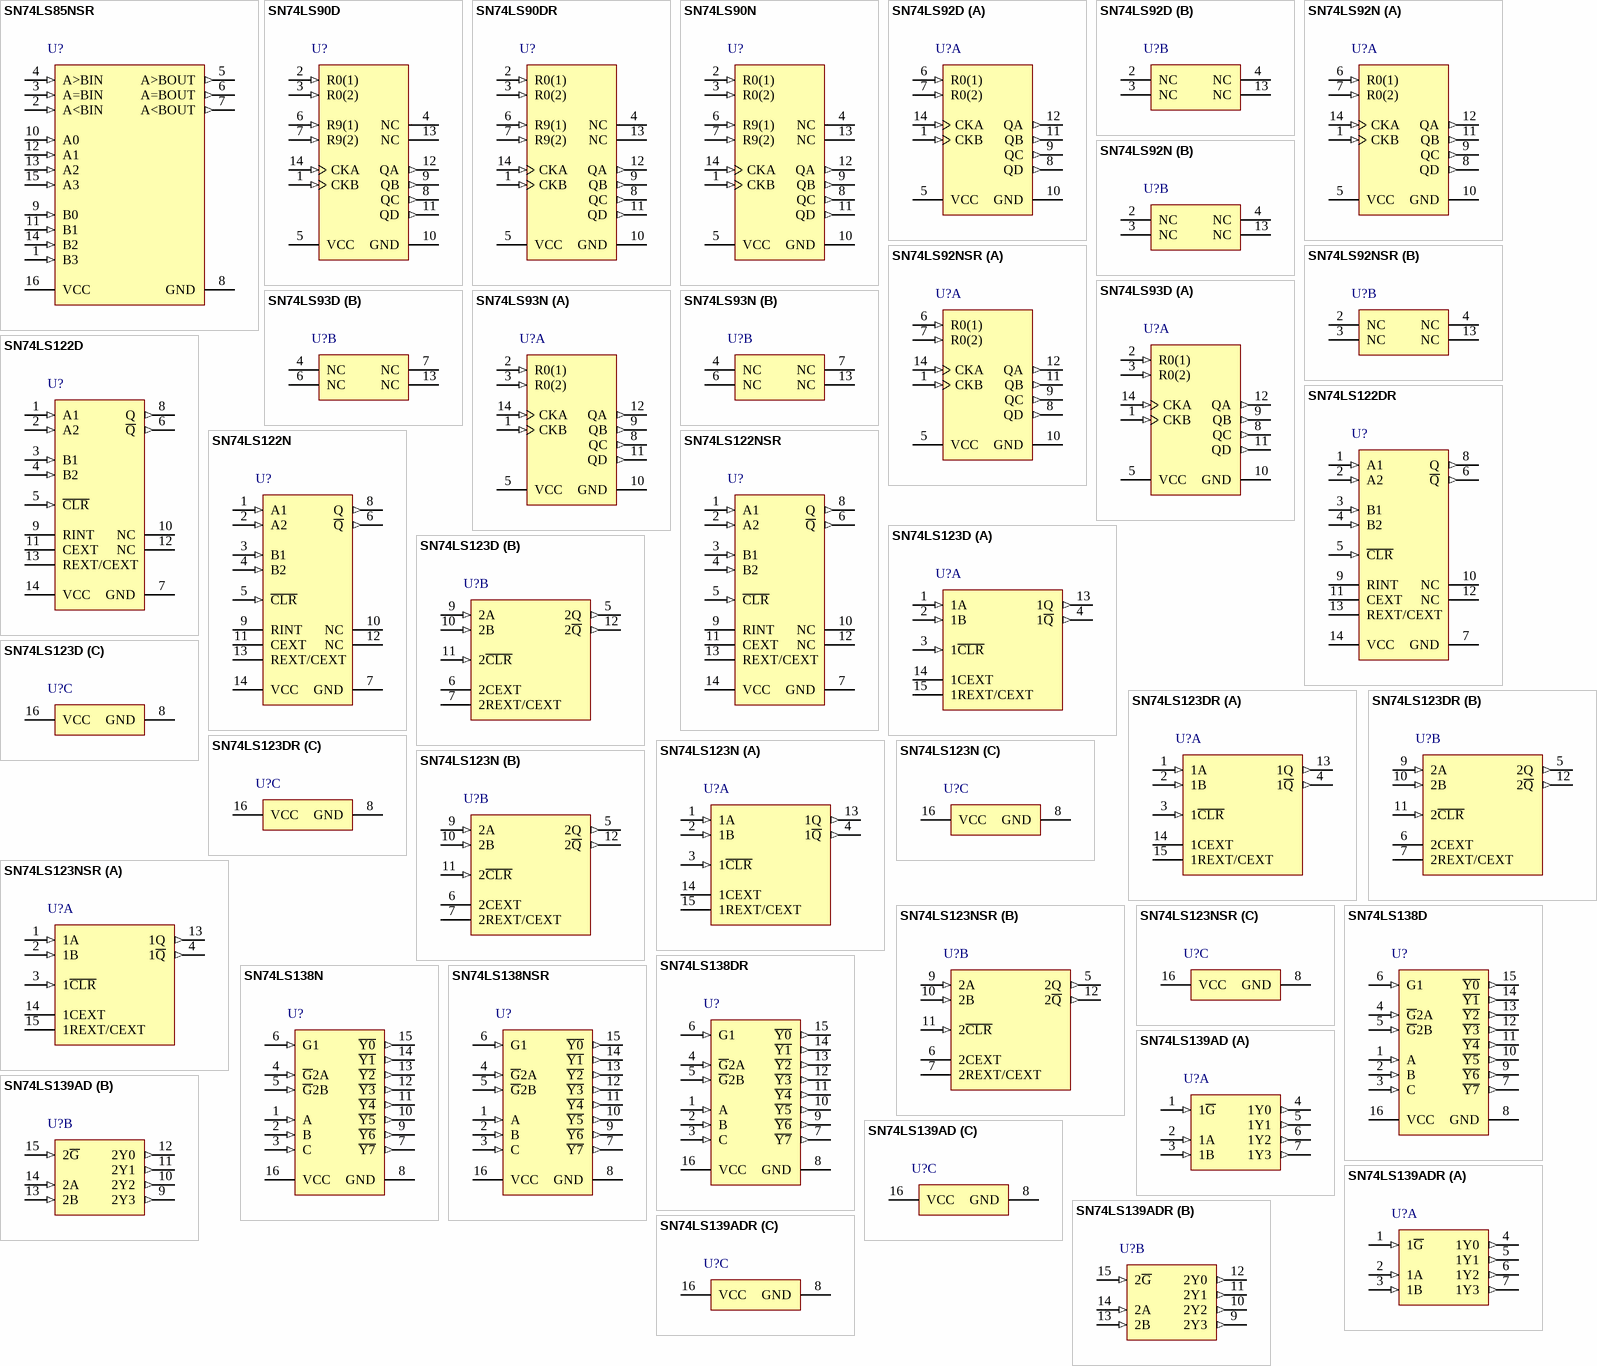
[diagram p67: symbols SN74LS85NSR to SN74LS139ADR]

## SN74LS85NSR
designator U?
4-bit magnitude comparators, NS0016A, LARGE T&R; Generic Part Number: SN74LS85; Manufacturer: Texas Instruments; PartNumber: SN74LS85NSR; VCC(Min)(V): 4.75; VCC(Max)(V): 5.25; Output Type: TTL; ICC @ Nom Voltage(Max)(mA): 88; Bits(#): 4; F @ Nom Voltage(Max)(Mhz): 35; Rating: Catalog; Technology Family: LS; Voltage(Nom)(V): 5; Schmitt Trigger: No; Output Drive (IOL/IOH)(Max)(mA): 16/-0.4; DatasheetVersion: SDLS123; PackageReference: NS0016A; Supplier 1: Mouser; Supplier Part Number 1: 595-SN74LS85NSR; Supplier 2: Digi-Key; Supplier Part Number 2: 296-29139-2-ND; Supplier 3: Digi-Key; Supplier Part Number 3: 296-29139-1-ND; Supplier 4: Digi-Key; Supplier Part Number 4: 296-29139-6-ND; Input Type: TTL; Operating Temperature Range(C): 0 to 70; tpd @ Nom Voltage(Max)(ns): 35; ComponentLink1Description: Manufacturer URL; ComponentLink1URL: http://www.ti.com/; ComponentLink2Description: Datasheet; ComponentLink2URL: http://www.ti.com/lit/ds/symlink/sn74ls85.pdf
footprint NS0016A_N (SOIC,16-Leads,Body 10.5x5.6mm,Pitch 1.27mm,IPC Medium Density)
footprint NS0016A_M (SOIC,16-Leads,Body 10.5x5.6mm,Pitch 1.27mm,IPC Low Density)
footprint NS0016A_L (SOIC,16-Leads,Body 10.5x5.6mm,Pitch 1.27mm,IPC High Density)
pins: 1 B3 (in), 2 A<BIN (in), 3 A=BIN (in), 4 A>BIN (in), 5 A>BOUT (out), 6 A=BOUT (out), 7 A<BOUT (out), 8 GND (power), 9 B0 (in), 10 A0 (in), 11 B1 (in), 12 A1 (in), 13 A2 (in), 14 B2 (in), 15 A3 (in), 16 VCC (power)

## SN74LS90D
designator U?
Decade Counter, D0014A, TUBE; Generic Part Number: SN74LS90; Manufacturer: Texas Instruments; PartNumber: SN74LS90D; VCC(Min)(V): 4.75; VCC(Max)(V): 5.25; Output Type: CMOS; Inputs: 1; ICC @ Nom Voltage(Max)(mA): 15; Input Type: TTL; Bits(#): 4; F @ Nom Voltage(Max)(Mhz): 35; Rating: Catalog; Technology Family: LS; Voltage(Nom)(V): 5; Schmitt Trigger: No; Output Drive (IOL/IOH)(Max)(mA): 8/-0.4; tpd @ Nom Voltage(Max)(ns): 50; DatasheetVersion: SDLS940A; PackageReference: D0014A; Supplier 1: Mouser; Supplier Part Number 1: 595-SN74LS90D; Supplier 2: Digi-Key; Supplier Part Number 2: 296-3746-5-ND; Function: Counter; Operating Temperature Range(C): 0 to 70; Type: Decade; Code_JEDEC: MS-012; ComponentLink1Description: Manufacturer URL; ComponentLink1URL: http://www.ti.com/; ComponentLink2Description: Datasheet; ComponentLink2URL: http://www.ti.com/lit/ds/symlink/sn74ls90.pdf; ComponentLink3Description: Package Specification; ComponentLink3URL: http://www.ti.com/lit/ml/mpds177g/mpds177g.pdf
footprint D0014A_N (SOIC, 14-Leads, Body 8.75x4mm, Pitch 1.27mm, IPC Medium Density)
footprint D0014A_M (SOIC, 14-Leads, Body 8.75x4mm, Pitch 1.27mm, IPC Low Density)
footprint D0014A_L (SOIC, 14-Leads, Body 8.75x4mm, Pitch 1.27mm, IPC High Density)
pins: 1 CKB (in), 2 R0(1) (in), 3 R0(2) (in), 4 NC, 5 VCC (power), 6 R9(1) (in), 7 R9(2) (in), 8 QC (out), 9 QB (out), 10 GND (power), 11 QD (out), 12 QA (out), 13 NC, 14 CKA (in)

## SN74LS90DR
designator U?
Decade Counter, D0014A, LARGE T&R; Generic Part Number: SN74LS90; Manufacturer: Texas Instruments; PartNumber: SN74LS90DR; VCC(Min)(V): 4.75; VCC(Max)(V): 5.25; Output Type: CMOS; Inputs: 1; ICC @ Nom Voltage(Max)(mA): 15; Input Type: TTL; Bits(#): 4; F @ Nom Voltage(Max)(Mhz): 35; Rating: Catalog; Technology Family: LS; Voltage(Nom)(V): 5; Schmitt Trigger: No; Output Drive (IOL/IOH)(Max)(mA): 8/-0.4; tpd @ Nom Voltage(Max)(ns): 50; DatasheetVersion: SDLS940A; PackageReference: D0014A; Supplier 1: Mouser; Supplier Part Number 1: 595-SN74LS90DR; Supplier 2: Digi-Key; Supplier Part Number 2: 296-3746-2-ND; Supplier 3: Digi-Key; Supplier Part Number 3: 296-3746-1-ND; Supplier 4: Digi-Key; Supplier Part Number 4: 296-3746-6-ND; Function: Counter; Operating Temperature Range(C): 0 to 70; Type: Decade; Code_JEDEC: MS-012; ComponentLink1Description: Manufacturer URL; ComponentLink1URL: http://www.ti.com/; ComponentLink2Description: Datasheet; ComponentLink2URL: http://www.ti.com/lit/ds/symlink/sn74ls90.pdf; ComponentLink3Description: Package Specification; ComponentLink3URL: http://www.ti.com/lit/ml/mpds177g/mpds177g.pdf
footprint D0014A_N (SOIC, 14-Leads, Body 8.75x4mm, Pitch 1.27mm, IPC Medium Density)
footprint D0014A_M (SOIC, 14-Leads, Body 8.75x4mm, Pitch 1.27mm, IPC Low Density)
footprint D0014A_L (SOIC, 14-Leads, Body 8.75x4mm, Pitch 1.27mm, IPC High Density)
pins: 1 CKB (in), 2 R0(1) (in), 3 R0(2) (in), 4 NC, 5 VCC (power), 6 R9(1) (in), 7 R9(2) (in), 8 QC (out), 9 QB (out), 10 GND (power), 11 QD (out), 12 QA (out), 13 NC, 14 CKA (in)

## SN74LS90N
designator U?
Decade Counter, N0014A, TUBE; Generic Part Number: SN74LS90; Manufacturer: Texas Instruments; PartNumber: SN74LS90N; VCC(Min)(V): 4.75; VCC(Max)(V): 5.25; Output Type: CMOS; Inputs: 1; ICC @ Nom Voltage(Max)(mA): 15; Input Type: TTL; Bits(#): 4; F @ Nom Voltage(Max)(Mhz): 35; Rating: Catalog; Technology Family: LS; Voltage(Nom)(V): 5; Schmitt Trigger: No; Output Drive (IOL/IOH)(Max)(mA): 8/-0.4; tpd @ Nom Voltage(Max)(ns): 50; DatasheetVersion: SDLS940A; PackageReference: N0014A; Supplier 1: Mouser; Supplier Part Number 1: 595-SN74LS90N; Supplier 2: Digi-Key; Supplier Part Number 2: 296-34031-5-ND; Function: Counter; Operating Temperature Range(C): 0 to 70; Type: Decade; Code_JEDEC: MS-001; ComponentLink1Description: Manufacturer URL; ComponentLink1URL: http://www.ti.com/; ComponentLink2Description: Datasheet; ComponentLink2URL: http://www.ti.com/lit/ds/symlink/sn74ls90.pdf; ComponentLink3Description: Package Specification; ComponentLink3URL: http://www.ti.com/lit/ml/mpdi002c/mpdi002c.pdf
footprint N0014A (DIP, 14-Leads, Body 19.7x6.6mm, Pitch 2.54mm)
pins: 1 CKB (in), 2 R0(1) (in), 3 R0(2) (in), 4 NC, 5 VCC (power), 6 R9(1) (in), 7 R9(2) (in), 8 QC (out), 9 QB (out), 10 GND (power), 11 QD (out), 12 QA (out), 13 NC, 14 CKA (in)

## SN74LS92D
designator U?
Divide-By-Twelve Counter, D0014A, TUBE; Generic Part Number: SN74LS92; Manufacturer: Texas Instruments; PartNumber: SN74LS92D; VCC(Min)(V): 4.75; VCC(Max)(V): 5.25; Output Type: CMOS; Inputs: 1; ICC @ Nom Voltage(Max)(mA): 15; Input Type: TTL; Bits(#): 4; F @ Nom Voltage(Max)(Mhz): 35; Rating: Catalog; Technology Family: LS; Voltage(Nom)(V): 5; Schmitt Trigger: No; Output Drive (IOL/IOH)(Max)(mA): 8/-0.4; tpd @ Nom Voltage(Max)(ns): 50; DatasheetVersion: SDLS940A; PackageReference: D0014A; Supplier 1: Mouser; Supplier Part Number 1: 595-SN74LS92D; Supplier 2: Digi-Key; Supplier Part Number 2: 296-3747-5-ND; Function: Counter; Operating Temperature Range(C): 0 to 70; Type: Other; Code_JEDEC: MS-012; ComponentLink1Description: Manufacturer URL; ComponentLink1URL: http://www.ti.com/; ComponentLink2Description: Datasheet; ComponentLink2URL: http://www.ti.com/lit/ds/symlink/sn74ls92.pdf; ComponentLink3Description: Package Specification; ComponentLink3URL: http://www.ti.com/lit/ml/mpds177g/mpds177g.pdf
footprint D0014A_N (SOIC, 14-Leads, Body 8.75x4mm, Pitch 1.27mm, IPC Medium Density)
footprint D0014A_M (SOIC, 14-Leads, Body 8.75x4mm, Pitch 1.27mm, IPC Low Density)
footprint D0014A_L (SOIC, 14-Leads, Body 8.75x4mm, Pitch 1.27mm, IPC High Density)
part A pins: 1 CKB (in), 5 VCC (power), 6 R0(1) (in), 7 R0(2) (in), 8 QD (out), 9 QC (out), 10 GND (power), 11 QB (out), 12 QA (out), 14 CKA (in)
part B pins: 2 NC, 3 NC, 4 NC, 13 NC

## SN74LS92N
designator U?
Divide-By-Twelve Counter, N0014A, TUBE; Generic Part Number: SN74LS92; Manufacturer: Texas Instruments; PartNumber: SN74LS92N; VCC(Min)(V): 4.75; VCC(Max)(V): 5.25; Output Type: CMOS; Inputs: 1; ICC @ Nom Voltage(Max)(mA): 15; Input Type: TTL; Bits(#): 4; F @ Nom Voltage(Max)(Mhz): 35; Rating: Catalog; Technology Family: LS; Voltage(Nom)(V): 5; Schmitt Trigger: No; Output Drive (IOL/IOH)(Max)(mA): 8/-0.4; tpd @ Nom Voltage(Max)(ns): 50; DatasheetVersion: SDLS940A; PackageReference: N0014A; Supplier 1: Mouser; Supplier Part Number 1: 595-SN74LS92N; Supplier 2: Digi-Key; Supplier Part Number 2: 296-26521-5-ND; Function: Counter; Operating Temperature Range(C): 0 to 70; Type: Other; Code_JEDEC: MS-001; ComponentLink1Description: Manufacturer URL; ComponentLink1URL: http://www.ti.com/; ComponentLink2Description: Datasheet; ComponentLink2URL: http://www.ti.com/lit/ds/symlink/sn74ls92.pdf; ComponentLink3Description: Package Specification; ComponentLink3URL: http://www.ti.com/lit/ml/mpdi002c/mpdi002c.pdf
footprint N0014A (DIP, 14-Leads, Body 19.7x6.6mm, Pitch 2.54mm)
part A pins: 1 CKB (in), 5 VCC (power), 6 R0(1) (in), 7 R0(2) (in), 8 QD (out), 9 QC (out), 10 GND (power), 11 QB (out), 12 QA (out), 14 CKA (in)
part B pins: 2 NC, 3 NC, 4 NC, 13 NC

## SN74LS92NSR
designator U?
Divide-By-Twelve Counter, NS0014A, LARGE T&R; Generic Part Number: SN74LS92; Manufacturer: Texas Instruments; PartNumber: SN74LS92NSR; VCC(Min)(V): 4.75; VCC(Max)(V): 5.25; Output Type: CMOS; Inputs: 1; ICC @ Nom Voltage(Max)(mA): 15; Input Type: TTL; Bits(#): 4; F @ Nom Voltage(Max)(Mhz): 35; Rating: Catalog; Technology Family: LS; Voltage(Nom)(V): 5; Schmitt Trigger: No; Output Drive (IOL/IOH)(Max)(mA): 8/-0.4; tpd @ Nom Voltage(Max)(ns): 50; DatasheetVersion: SDLS940A; PackageReference: NS0014A; Supplier 1: Mouser; Supplier Part Number 1: 595-SN74LS92NSR; Supplier 2: Digi-Key; Supplier Part Number 2: 296-13225-2-ND; Supplier 3: Digi-Key; Supplier Part Number 3: 296-13225-1-ND; Supplier 4: Digi-Key; Supplier Part Number 4: 296-13225-6-ND; Function: Counter; Operating Temperature Range(C): 0 to 70; Type: Other; ComponentLink1Description: Manufacturer URL; ComponentLink1URL: http://www.ti.com/; ComponentLink2Description: Datasheet; ComponentLink2URL: http://www.ti.com/lit/ds/symlink/sn74ls92.pdf; ComponentLink3Description: Package Specification; ComponentLink3URL: http://www.ti.com/lit/ml/msop002a/msop002a.pdf
footprint NS0014A_N (SOIC,14-Leads,Body 10.5x5.6mm,Pitch 1.27mm,IPC Medium Density)
footprint NS0014A_M (SOIC,14-Leads,Body 10.5x5.6mm,Pitch 1.27mm,IPC Low Density)
footprint NS0014A_L (SOIC,14-Leads,Body 10.5x5.6mm,Pitch 0.4mm,IPC High Density)
part A pins: 1 CKB (in), 5 VCC (power), 6 R0(1) (in), 7 R0(2) (in), 8 QD (out), 9 QC (out), 10 GND (power), 11 QB (out), 12 QA (out), 14 CKA (in)
part B pins: 2 NC, 3 NC, 4 NC, 13 NC

## SN74LS93D
designator U?
4-Bit Binary Counters, D0014A, TUBE; Generic Part Number: SN74LS93; Manufacturer: Texas Instruments; PartNumber: SN74LS93D; VCC(Min)(V): 4.75; VCC(Max)(V): 5.25; Output Type: CMOS; Inputs: 1; ICC @ Nom Voltage(Max)(mA): 15; Input Type: TTL; Bits(#): 4; F @ Nom Voltage(Max)(Mhz): 35; Rating: Catalog; Technology Family: LS; Voltage(Nom)(V): 5; Schmitt Trigger: No; Output Drive (IOL/IOH)(Max)(mA): 8/-0.4; tpd @ Nom Voltage(Max)(ns): 70; DatasheetVersion: SDLS940A; PackageReference: D0014A; Supplier 1: Mouser; Supplier Part Number 1: 595-SN74LS93D; Supplier 2: Digi-Key; Supplier Part Number 2: 296-3749-5-ND; Function: Counter; Operating Temperature Range(C): 0 to 70; Type: Binary; Code_JEDEC: MS-012; ComponentLink1Description: Manufacturer URL; ComponentLink1URL: http://www.ti.com/; ComponentLink2Description: Datasheet; ComponentLink2URL: http://www.ti.com/lit/ds/symlink/sn74ls93.pdf; ComponentLink3Description: Package Specification; ComponentLink3URL: http://www.ti.com/lit/ml/mpds177g/mpds177g.pdf
footprint D0014A_N (SOIC, 14-Leads, Body 8.75x4mm, Pitch 1.27mm, IPC Medium Density)
footprint D0014A_M (SOIC, 14-Leads, Body 8.75x4mm, Pitch 1.27mm, IPC Low Density)
footprint D0014A_L (SOIC, 14-Leads, Body 8.75x4mm, Pitch 1.27mm, IPC High Density)
part A pins: 1 CKB (in), 2 R0(1) (in), 3 R0(2) (in), 5 VCC (power), 8 QC (out), 9 QB (out), 10 GND (power), 11 QD (out), 12 QA (out), 14 CKA (in)
part B pins: 4 NC, 6 NC, 7 NC, 13 NC

## SN74LS93N
designator U?
4-Bit Binary Counters, N0014A, TUBE; Generic Part Number: SN74LS93; Manufacturer: Texas Instruments; PartNumber: SN74LS93N; VCC(Min)(V): 4.75; VCC(Max)(V): 5.25; Output Type: CMOS; Inputs: 1; ICC @ Nom Voltage(Max)(mA): 15; Input Type: TTL; Bits(#): 4; F @ Nom Voltage(Max)(Mhz): 35; Rating: Catalog; Technology Family: LS; Voltage(Nom)(V): 5; Schmitt Trigger: No; Output Drive (IOL/IOH)(Max)(mA): 8/-0.4; tpd @ Nom Voltage(Max)(ns): 70; DatasheetVersion: SDLS940A; PackageReference: N0014A; Supplier 1: Mouser; Supplier Part Number 1: 595-SN74LS93N; Supplier 2: Digi-Key; Supplier Part Number 2: 296-3750-5-ND; Function: Counter; Operating Temperature Range(C): 0 to 70; Type: Binary; Code_JEDEC: MS-001; ComponentLink1Description: Manufacturer URL; ComponentLink1URL: http://www.ti.com/; ComponentLink2Description: Datasheet; ComponentLink2URL: http://www.ti.com/lit/ds/symlink/sn74ls93.pdf; ComponentLink3Description: Package Specification; ComponentLink3URL: http://www.ti.com/lit/ml/mpdi002c/mpdi002c.pdf
footprint N0014A (DIP, 14-Leads, Body 19.7x6.6mm, Pitch 2.54mm)
part A pins: 1 CKB (in), 2 R0(1) (in), 3 R0(2) (in), 5 VCC (power), 8 QC (out), 9 QB (out), 10 GND (power), 11 QD (out), 12 QA (out), 14 CKA (in)
part B pins: 4 NC, 6 NC, 7 NC, 13 NC

## SN74LS122D
designator U?
Retriggerable monostable multivibrator, D0014A, TUBE; Generic Part Number: SN74LS122; Manufacturer: Texas Instruments; PartNumber: SN74LS122D; VCC(Min)(V): 4.75; VCC(Max)(V): 5.25; Output Type: TTL; ICC @ Nom Voltage(Max)(mA): 11; Bits(#): 2; F @ Nom Voltage(Max)(Mhz): 35; Rating: Catalog; Technology Family: LS; Voltage(Nom)(V): 5; Schmitt Trigger: No; Output Drive (IOL/IOH)(Max)(mA): 8/-0.4; tpd @ Nom Voltage(Max)(ns): 56; DatasheetVersion: SDLS043; PackageReference: D0014A; Supplier 1: Mouser; Supplier Part Number 1: 595-SN74LS122D; Supplier 2: Digi-Key; Supplier Part Number 2: 296-33956-5-ND; Input Type: TTL; Operating Temperature Range(C): 0 to 70; Code_JEDEC: MS-012; ComponentLink1Description: Manufacturer URL; ComponentLink1URL: http://www.ti.com/; ComponentLink2Description: Datasheet; ComponentLink2URL: http://www.ti.com/lit/ds/symlink/sn74ls122.pdf; ComponentLink3Description: Package Specification; ComponentLink3URL: http://www.ti.com/lit/ml/mpds177g/mpds177g.pdf
footprint D0014A_N (SOIC, 14-Leads, Body 8.75x4mm, Pitch 1.27mm, IPC Medium Density)
footprint D0014A_M (SOIC, 14-Leads, Body 8.75x4mm, Pitch 1.27mm, IPC Low Density)
footprint D0014A_L (SOIC, 14-Leads, Body 8.75x4mm, Pitch 1.27mm, IPC High Density)
pins: 1 A1 (in), 2 A2 (in), 3 B1 (in), 4 B2 (in), 5 ~{CLR} (in), 6 ~{Q} (out), 7 GND (power), 8 Q (out), 9 RINT, 10 NC, 11 CEXT, 12 NC, 13 REXT/CEXT, 14 VCC (power)

## SN74LS122DR
designator U?
Retriggerable monostable multivibrator, D0014A, LARGE T&R; Generic Part Number: SN74LS122; Manufacturer: Texas Instruments; PartNumber: SN74LS122DR; VCC(Min)(V): 4.75; VCC(Max)(V): 5.25; Output Type: TTL; ICC @ Nom Voltage(Max)(mA): 11; Bits(#): 2; F @ Nom Voltage(Max)(Mhz): 35; Rating: Catalog; Technology Family: LS; Voltage(Nom)(V): 5; Schmitt Trigger: No; Output Drive (IOL/IOH)(Max)(mA): 8/-0.4; tpd @ Nom Voltage(Max)(ns): 56; DatasheetVersion: SDLS043; PackageReference: D0014A; Supplier 1: Mouser; Supplier Part Number 1: 595-SN74LS122DR; Supplier 2: Digi-Key; Supplier Part Number 2: 296-29004-2-ND; Supplier 3: Digi-Key; Supplier Part Number 3: 296-29004-1-ND; Supplier 4: Digi-Key; Supplier Part Number 4: 296-29004-6-ND; Input Type: TTL; Operating Temperature Range(C): 0 to 70; Code_JEDEC: MS-012; ComponentLink1Description: Manufacturer URL; ComponentLink1URL: http://www.ti.com/; ComponentLink2Description: Datasheet; ComponentLink2URL: http://www.ti.com/lit/ds/symlink/sn74ls122.pdf; ComponentLink3Description: Package Specification; ComponentLink3URL: http://www.ti.com/lit/ml/mpds177g/mpds177g.pdf
footprint D0014A_N (SOIC, 14-Leads, Body 8.75x4mm, Pitch 1.27mm, IPC Medium Density)
footprint D0014A_M (SOIC, 14-Leads, Body 8.75x4mm, Pitch 1.27mm, IPC Low Density)
footprint D0014A_L (SOIC, 14-Leads, Body 8.75x4mm, Pitch 1.27mm, IPC High Density)
pins: 1 A1 (in), 2 A2 (in), 3 B1 (in), 4 B2 (in), 5 ~{CLR} (in), 6 ~{Q} (out), 7 GND (power), 8 Q (out), 9 RINT, 10 NC, 11 CEXT, 12 NC, 13 REXT/CEXT, 14 VCC (power)